# Altium footprint library ARCOM_LEDs.PcbLib: 4 footprints
Each footprint in its own frame and in the unit in brackets; x right, y up, seen from the top. Pads: shape width x height; smd on the part's side, far side on the other; paste and mask are expansions set on the pad; w line width, h text height; cw(c..) or ccw(c..) is an arc to the next point about the centre after c.
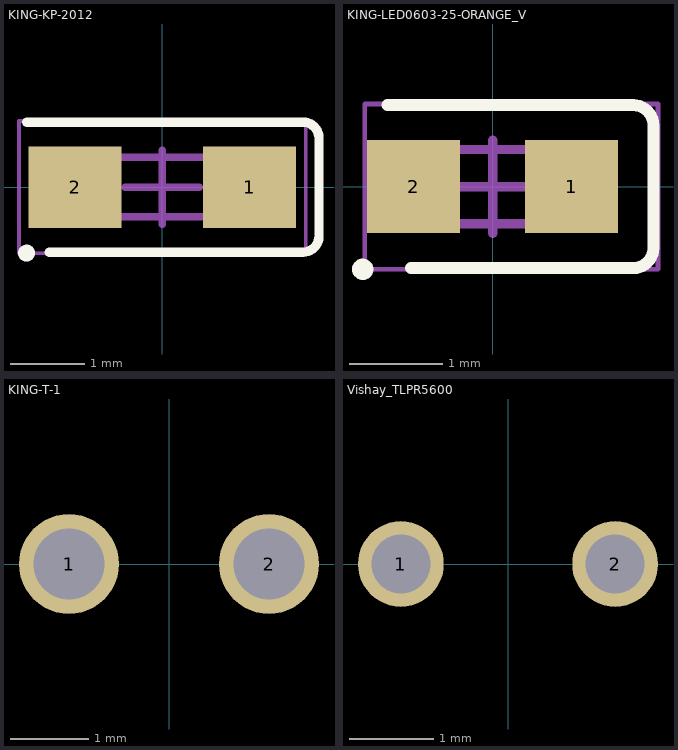
[diagram p0: the footprints below, top view; thin cyan lines are the x and y axes]

## KING-KP-2012 [mm] "LED, SMT, Body 1.6 x 0.8 mm, 0.25mm Thickness"
height 0.25
pads (2):
  rect 1.25x1.1 smd: 1(1.175,0) 2(-1.175,0)
Top Overlay:
  circle w0.127: c-1.829,-0.889 r0.051
  lines w0.127: -1.829,0.876 1.894,0.876 cw(c1.894,0.66) 2.11,0.66 2.11,-0.66 cw(c1.894,-0.66) 1.894,-0.876 -1.524,-0.876
Mechanical 7:
  lines w0.1: -0.8,-0.4 0.8,-0.4 0.8,0.4 -0.8,0.4 -0.8,-0.4
M15 Top Assy:
  lines w0.05: -1.93,-0.889 -1.93,0.889 1.93,0.889 1.93,-0.889 -1.93,-0.889
  lines w0.1: -0.5,0 0.5,0 ; 0,-0.5 0,0.5
3D body: height 0.25, standoff 0.1, extent -0.6,-0.4 0.6,0.4
3D body: height 0.2, standoff 0.15, extent -0.254,-0.254 0.254,0.254
3D body: height 0.1, standoff 0, extent -0.8,-0.4 0.8,0.4

## KING-LED0603-25-ORANGE_V [mm] "LED, SMT, Body 1.6 x 0.8 mm, 0.25mm Thickness"
height 0.25
pads (2):
  rect 1x1 smd: 1(0.85,0) 2(-0.85,0)
Top Overlay:
  circle w0.127: c-1.397,-0.889 r0.051
  lines w0.127: -1.13,0.876 1.513,0.876 cw(c1.513,0.66) 1.729,0.66 1.729,-0.66 cw(c1.513,-0.66) 1.513,-0.876 -0.876,-0.876
Mechanical 7:
  lines w0.1: -0.8,-0.4 -0.8,0.4 0.8,0.4 0.8,-0.4 -0.8,-0.4
M15 Top Assy:
  lines w0.05: -1.375,-0.889 1.778,-0.889 1.778,0.889 -1.375,0.889 -1.375,-0.889
  lines w0.1: -0.5,0 0.5,0 ; 0,-0.5 0,0.5
3D body: height 0.1, standoff 0, extent -0.8,-0.4 0.8,0.4
3D body: height 0.2, standoff 0.15, extent -0.254,-0.254 0.254,0.254
3D body: height 0.25, standoff 0.1, extent -0.6,-0.4 0.6,0.4

## KING-T-1 [mm]
pads (2):
  round 1.27 hole 0.9: 1(-1.27,0) 2(1.27,0)

## Vishay_TLPR5600 [mil]
pads (2):
  round 40 hole 27.56: 1(-50,0) 2(50,0)
3D body "Vishay_TLPR5600.STEP": height 295.98, standoff -38.67, extent -88.58,-129.48 88.59,28